# Altium footprint library Breadboard Power Module.PcbLib: 13 footprints
Each footprint in its own frame and in the unit in brackets; x right, y up, seen from the top. Pads: shape width x height; smd on the part's side, far side on the other; paste and mask are expansions set on the pad; w line width, h text height; cw(c..) or ccw(c..) is an arc to the next point about the centre after c.
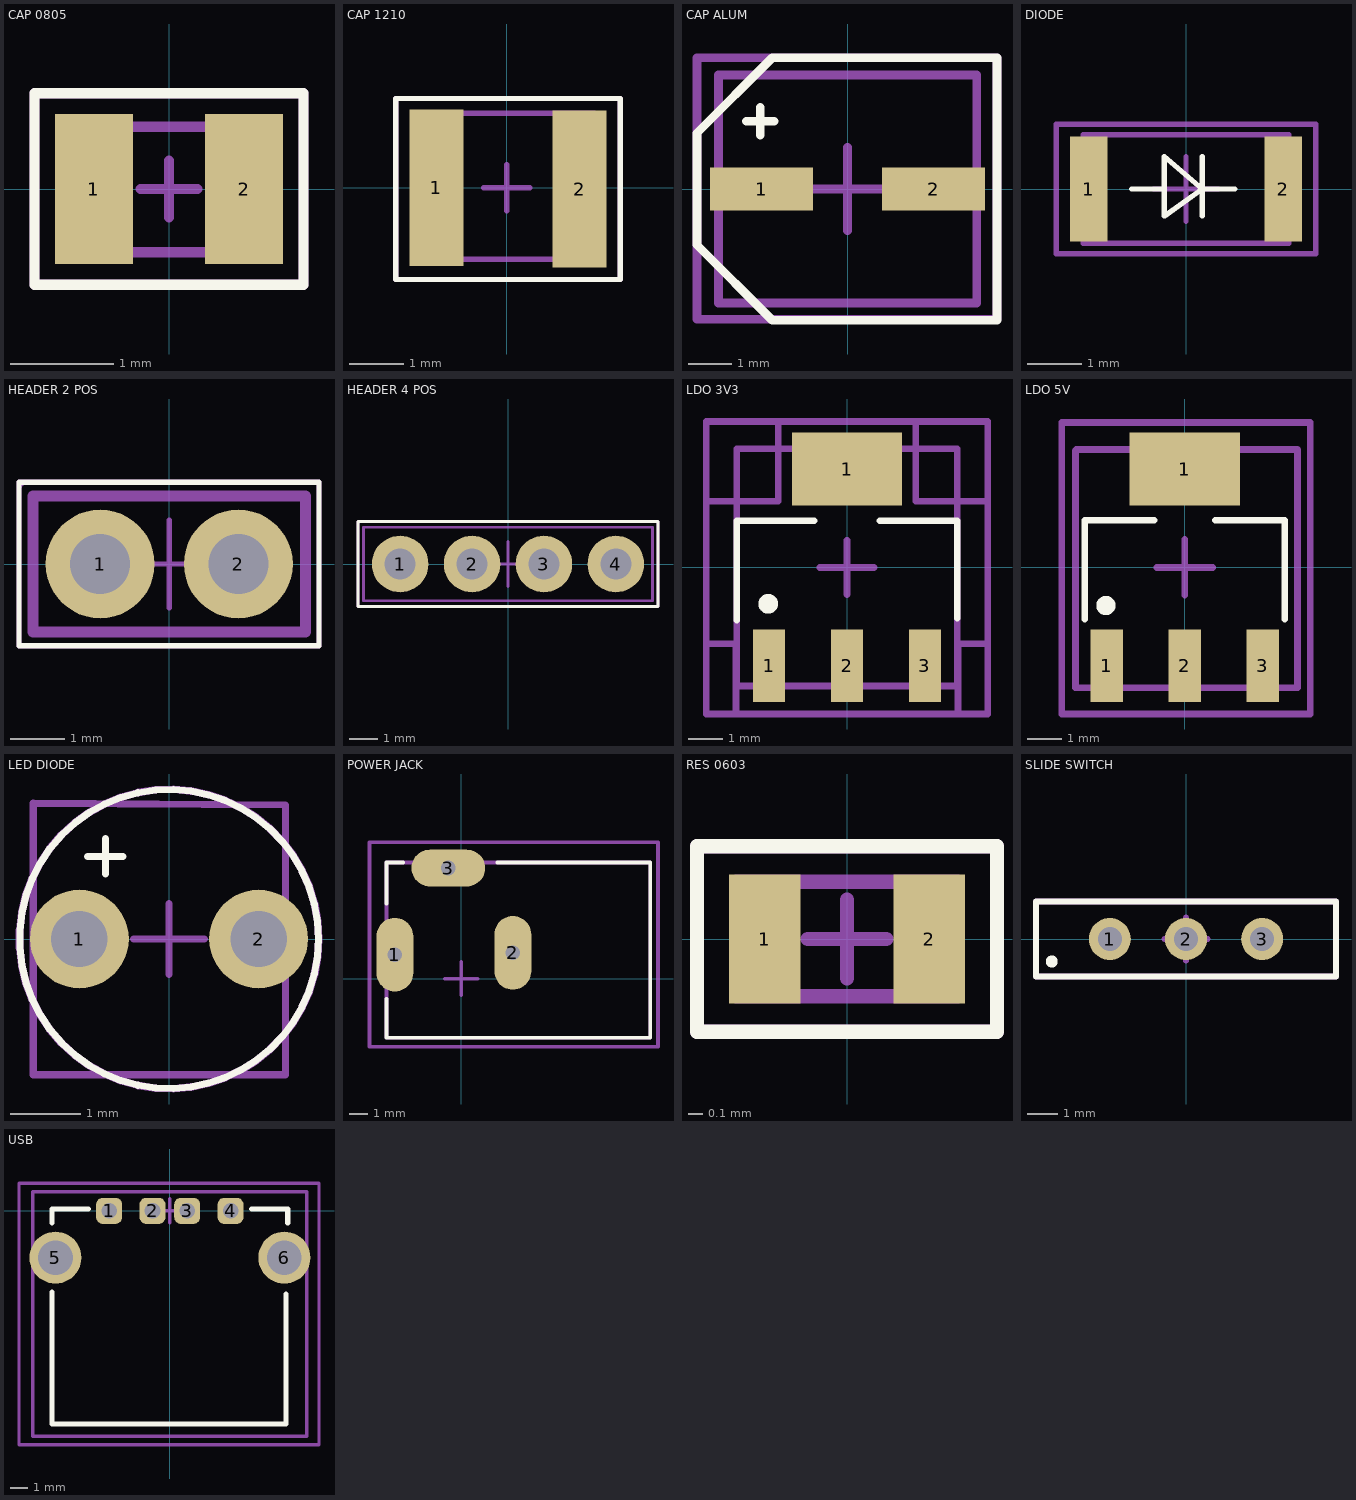
[diagram p0: the footprints below, top view; thin cyan lines are the x and y axes]

## CAP 0805 [mm]
pads (2):
  rect 0.75x1.45 smd mask+0.102: 1(-0.725,0) 2(0.725,0)
Top Overlay:
  lines w0.1: -1.3,-0.925 -1.3,0.925 1.3,0.925 1.3,-0.925 -1.3,-0.925
Top 3D Body:
  lines w0.1: -0.997,-0.609 ccw(c-0.995,-0.609) -0.995,-0.612 0.999,-0.612 ccw(c0.999,-0.611) 1,-0.611 1,0.6 ccw(c0.998,0.6) 0.998,0.602 -0.997,0.602 -0.997,0.59 -0.997,-0.609
Top Component Center:
  lines w0.1: -0.275,0 0,0 ; 0,-0.275 0,0 ; 0,0.275 0,0 ; 0.275,0 0,0 ; -1.3,-0.925 -1.3,0.925 1.3,0.925 1.3,-0.925 -1.3,-0.925
Top Designator:
  lines w0.1: -1.3,-0.925 -1.3,0.925 1.3,0.925 1.3,-0.925 -1.3,-0.925
  text ".Designator" at -0.55,-0.25 h0.6
3D body "CC0805N_YAG.step": height 0.71, standoff 0, extent -1.003,-0.61 1.003,0.61

## CAP 1210 [mm]
pads (2):
  rect 1x2.9 smd mask+0.102: 1(-1.3,0) 2(1.35,-0.025)
Top Overlay:
  lines w0.1: -2.05,-1.7 -2.05,1.65 2.1,1.65 2.1,-1.7 -2.05,-1.7
Top 3D Body:
  lines w0.1: -1.575,-1.325 -1.575,1.375 1.625,1.375 1.625,-1.325 -1.575,-1.325
Top Component Center:
  lines w0.1: -0.425,0 0,0 ; 0,-0.425 0,0 ; 0,0.425 0,0 ; 0.425,0 0,0 ; -2.05,-1.7 -2.05,1.65 2.1,1.65 2.1,-1.7 -2.05,-1.7
Top Designator:
  lines w0.1: -2.05,-1.7 -2.05,1.65 2.1,1.65 2.1,-1.7 -2.05,-1.7
  text ".Designator" at -0.175,-0.342 h1
3D body "GRM32EC81C476ME15L.STEP": height 2.5, standoff 0, extent -1.575,-1.325 1.625,1.375

## CAP ALUM [mm]
pads (2):
  rect 2.4x1 smd mask+0.05: 1(-2,0) 2(2,0)
Top Overlay:
  lines w0.2: -2.35,1.575 -1.7,1.575 ; -2.025,1.25 -2.025,1.9 ; -3.5,-1.3 -3.5,0.875 -3.5,1.3 -1.75,3.05 3.475,3.05 3.475,0.725 3.475,-3.05 -1.75,-3.05 -3.5,-1.3
Top 3D Body:
  lines w0.2: -3,-2.65 -3,2.65 3,2.65 3,-2.65 -3,-2.65
Top Component Center:
  lines w0.2: -0.975,0 0,0 ; 0,-0.975 0,0 ; 0,0.975 0,0 ; 0.975,0 0,0 ; -3.5,-3.025 3.475,-3.025 3.475,3.05 -3.5,3.05 -3.5,-3.025
Top Designator:
  lines w0.2: -3.5,-3.025 -3.5,3.05 3.475,3.05 3.475,-3.025 -3.5,-3.025
  text ".Designator" at 0.475,-0.542 h1
3D body "%C3%A2%E2%94%825%20SIZE%20CODE%20C.stp": height 5.8, standoff 0, extent -3,-2.65 3,2.65

## DIODE [mm]
pads (2):
  rect 0.7x1.95 smd mask+0.102: 1(-1.8,0) 2(1.8,0)
Top Overlay:
  lines w0.1: -1,0 -0.4,0 -0.4,0.6 ; 0.9,0 0.3,0 ; -0.4,0.6 0.3,0 ; -0.4,0.6 -0.4,-0.5 0.3,0 ; 0.3,0 0.3,-0.5 0.3,0 ; 0.3,0 0.3,0.6 0.3,0
Top 3D Body:
  lines w0.1: -1.9,-1 1.9,-1 1.9,1 -1.9,1 -1.9,-1
Top Component Center:
  lines w0.1: -0.6,0 0,0 ; 0,-0.6 0,0 ; 0,0.6 0,0 ; 0.6,0 0,0 ; -2.4,-1.2 2.4,-1.2 2.4,1.2 -2.4,1.2 -2.4,-1.2
Top Designator:
  lines w0.1: -2.4,-1.2 -2.4,1.2 2.4,1.2 2.4,-1.2 -2.4,-1.2
  text ".Designator" at -0.2,-0.633 h1.4
3D body "CR_SOD-123FL_SME.step": height 1.4, standoff 0, extent -1.93,-0.978 1.93,0.978

## HEADER 2 POS [mm]
pads (2):
  round 2 hole 1.1 mask+0.102: 1(-1.27,0) 2(1.27,0)
Top Overlay:
  lines w0.1: -2.76,-1.5 -2.76,1.5 2.75,1.5 2.75,-1.5 -2.76,-1.5
Top 3D Body:
  lines w0.2: -2.5,-1.25 -2.5,1.25 2.5,1.25 2.5,-1.25 -2.5,-1.25
Top Component Center:
  lines w0.1: -2.76,1.4 cw(c-2.66,1.4) -2.66,1.5 ; -0.8,0 0,0 ; 0,-0.8 0,0 ; 0,0.8 0,0 ; 0.8,0 0,0 ; -2.76,-1.5 -2.76,1.5 2.75,1.5 2.75,-1.5 -2.76,-1.5
Top Designator:
  lines w0.1: -2.76,-1.5 -2.76,1.5 2.75,1.5 2.75,0.75 2.75,-0.75 2.75,-1.5 -2.76,-1.5
  text ".Designator" at -0.95,-0.483 h1.4
3D body "Download_STP_61300211121_rev1.stp": height 8.57, standoff -2.97, extent -2.54,-1.27 2.54,1.27

## HEADER 4 POS [mm]
pads (4):
  round 2 hole 1.1 mask+0.102: 1(-3.81,0) 2(-1.27,0) 3(1.27,0) 4(3.81,0)
Top Overlay:
  lines w0.1: -5.3,-1.5 5.3,-1.5 5.3,1.5 -5.3,1.5 -5.3,-1.5
Top 3D Body:
  lines w0.1: -5.1,-1.3 5.1,-1.3 5.1,1.3 -5.1,1.3 -5.1,-1.3
Top Component Center:
  lines w0.1: -5.3,1.4 cw(c-5.2,1.4) -5.2,1.5 ; -0.8,0 0,0 ; 0,-0.8 0,0 ; 0,0.8 0,0 ; 0.8,0 0,0 ; -5.3,-1.5 5.3,-1.5 5.3,1.5 -5.3,1.5 -5.3,-1.5
Top Designator:
  lines w0.1: -5.3,-1.5 5.3,-1.5 5.3,1.5 -5.3,1.5 -5.3,-1.5
  text ".Designator" at 1.2,-0.733 h1.4
3D body "61300411121_Download_STP_61300411121_rev1.stp": height 8.57, standoff -2.97, extent -5.08,-1.27 5.08,1.27

## LDO 3V3 [mm]
pads (4):
  rect 0.95x2.15 smd mask+0.102: 1(-2.3,-2.9) 2(0,-2.9) 3(2.3,-2.9)
  rect 3.25x2.15 smd mask+0.102: 1(0,2.9)
Top Overlay:
  circle w0.4: c-2.325,-1.075 r0.09
  lines w0.2: -3.25,-1.55 -3.25,1.375 -0.975,1.375 ; 0.975,1.375 3.25,1.375 3.25,-1.5
Top 3D Body:
  lines w0.2: -3.25,-3.5 -3.25,3.5 3.25,3.5 3.25,-3.5 -3.25,-3.5
Top Component Center:
  lines w0.2: -0.802,-0.006 -0.002,-0.006 ; 0,-0.8 0,0 ; 0,0.8 0,0 ; 0.8,0 0,0 ; -4.15,-2.25 -4.15,1.95 -2.025,1.95 -2.025,4.3 2.025,4.3 2.025,1.95 4.15,1.95 4.15,-2.25 3.275,-2.25 3.275,-4.325 -3.275,-4.325 -3.275,-2.25 -4.15,-2.25
Top Designator:
  lines w0.2: -4.15,-4.325 -4.15,4.3 2.025,4.3 4.15,4.3 4.15,-4.325 -4.15,-4.325
  text ".Designator" at -0.4,-0.808 h1.4
3D body "AMS1117-3.3.STEP": height 1.8, standoff 0, extent -3.251,-3.499 3.251,3.499

## LDO 5V [mm]
pads (4):
  rect 0.95x2.15 smd mask+0.102: 1(-2.3,-2.9) 2(0,-2.9) 3(2.3,-2.9)
  rect 3.25x2.15 smd mask+0.102: 1(0,2.9)
Top Overlay:
  circle w0.3: c-2.325,-1.125 r0.135
  lines w0.2: -2.95,-1.525 -2.95,1.388 -0.9,1.388 ; 0.9,1.388 2.95,1.388 2.95,-1.525
Top 3D Body:
  lines w0.2: -3.225,-3.55 -3.225,3.45 -3.2,3.475 3.325,3.475 3.325,-3.55 -3.225,-3.55
Top Component Center:
  lines w0.2: -0.825,0 0,0 ; 0,-0.825 0,0 ; 0,0.825 0,0 ; 0.825,0 0,0 ; -3.625,-4.325 -3.625,4.275 3.7,4.275 3.7,-4.325 -3.625,-4.325
Top Designator:
  lines w0.2: -3.625,-4.325 -3.625,4.275 3.7,4.275 3.7,-4.325 -3.625,-4.325
  text ".Designator" at 0.55,-0.783 h1.4
3D body "AMS1117-5.0--3DModel-STEP-418109.STEP": height 1.8, standoff 0, extent -3.251,-3.499 3.251,3.499

## LED DIODE [mm]
pads (2):
  round 1.4 hole 0.8 mask+0.102: 1(-1.27,0) 2(1.27,0)
Top Overlay:
  circle w0.1: c0,0 r2.119
  lines w0.1: -1.153,1.173 -0.653,1.173 ; -0.903,0.923 -0.903,1.423 -0.903,1.173
Top 3D Body:
  lines w0.1: -1.925,-1.925 -1.925,1.925 1.65,1.9 1.65,-1.925 -1.925,-1.925
Top Component Center:
  circle w0.1: c0,0 r2.127
  lines w0.1: -0.5,0 0,0 ; 0,-0.5 0,0 ; 0,0.5 0,0 ; 0.5,0 0,0
Top Designator:
  circle w0.1: c0,0 r2.118
  text ".Designator" at -0.3,-0.508 h1.4
3D body "151031VS06000.stp": height 5.5, standoff -26.2, extent -1.925,-1.917 1.645,1.917

## POWER JACK [mm]
pads (3):
  oval 2x4 hole 0.8 square mask+0.05: 1(-3.6,1.3) 2(2.8,1.4)
  oval 4x2 hole 0.8 square mask+0.05: 3(-0.7,6)
Top Overlay:
  lines w0.2: -4.05,-1.1 -4.05,-3.2 10.25,-3.2 10.25,6.3 1.95,6.3 ; -4.05,4.075 -4.05,6.3 -3.15,6.3
Top 3D Body:
  lines w0.2: -4.05,-3.2 -4.05,6.3 10.25,6.3 10.25,-3.2 -4.05,-3.2
Top Component Center:
  lines w0.2: -0.9,0 0,0 ; 0,-0.9 0,0 ; 0,0.9 0,0 ; 0.9,0 0,0 ; -4.975,-3.7 10.675,-3.7 10.675,7.4 -4.975,7.4 -4.975,-3.7
Top Designator:
  lines w0.2: -4.975,-3.7 -4.975,7.4 10.675,7.4 10.675,-3.7 -4.975,-3.7
  text ".Designator" at 2.225,0.183 h2.5
3D body "54-00167.step": height 11, standoff -3.6, extent -4.05,-3.2 10.25,6.3

## RES 0603 [mm]
pads (2):
  rect 0.5x0.9 smd mask+0.102: 1(-0.575,0) 2(0.575,0)
Top Overlay:
  lines w0.1: -1.05,-0.65 1.05,-0.65 1.05,0.65 -1.05,0.65 -1.05,-0.65
Top 3D Body:
  lines w0.1: -0.775,-0.4 0.775,-0.4 0.775,0.4 -0.775,0.4 -0.775,-0.4
Top Component Center:
  lines w0.1: -0.275,0 0,0 ; 0,-0.275 0,0 ; 0,0.275 0,0 ; 0.275,0 0,0 ; -1.05,-0.65 1.05,-0.65 1.05,0.65 -1.05,0.65 -1.05,-0.65
Top Designator:
  lines w0.1: -1.05,-0.65 1.05,-0.65 1.05,0.65 -1.05,0.65 -1.05,-0.65
  text ".Designator" at -0.35,-0.275 h0.6
3D body "RNCF0603_stp.stp": height 0.44, standoff -0.01, extent -0.775,-0.4 0.775,0.4

## SLIDE SWITCH [mm]
pads (3):
  round 1.4 hole 0.8 mask+0.102: 1(-2.54,0) 2(0,0) 3(2.54,0)
Top Overlay:
  circle w0.2: c-4.475,-0.75 r0.1
  lines w0.2: -5,-1.25 -5,1.25 5,1.25 5,-1.25 -5,-1.25
Top 3D Body:
  lines w0.2: -5,-1.25 -5,1.25 5,1.25 5,-1.25 -5,-1.25
Top Component Center:
  lines w0.2: -0.725,0 0,0 ; 0,-0.725 0,0 ; 0,0.725 0,0 ; 0.725,0 0,0 ; -5,-1.25 -2.5,-1.25 5,-1.25 5,1.25 -5,1.25 -5,-1.25
Top Designator:
  lines w0.2: -5,-1.25 -5,1.25 5,1.25 5,-1.25 -5,-1.25
  text ".Designator" at 1.5,-0.633 h1.4
3D body "Download_STP_450301014042_rev1.stp": height 6.4, standoff -5, extent -5,-1.25 5,1.25
3D body "Download_STP_450301014042_rev1.stp": height 6.4, standoff -5, extent -5,-1.25 5,1.25

## USB [mm]
pads (6):
  rrect50% 1.5x1.5 hole 0.9 mask+0.102: 1(-3.5,0) 2(-1,0) 3(1,0) 4(3.5,0)
  round 3 hole 2 mask+0.102: 5(-6.6,-2.7) 6(6.6,-2.7)
Top Overlay:
  lines w0.3: -6.8,-4.7 -6.8,-12.3 6.7,-12.3 6.7,-4.8 ; -6.8,-0.7 -6.8,0.1 -4.7,0.1 ; 4.7,0.1 6.8,0.1 6.8,-0.7
Top 3D Body:
  lines w0.2: -7.9,-13 -7.9,1.1 7.9,1.1 7.9,-13 -7.9,-13
Top Component Center:
  lines w0.2: -0.7,0 0,0 ; 0,-0.7 0,0 ; 0,0.7 0,0 ; 0.7,0 0,0 ; -8.7,-13.5 -8.7,1.6 8.6,1.6 8.6,-13.5 -8.7,-13.5
Top Designator:
  lines w0.2: -8.7,-13.5 -8.7,1.6 8.6,1.6 8.6,-13.5 -8.7,-13.5
  text ".Designator" at -0.2,-7.734 h2
3D body "USB-A1HSW6.step": height 7.6, standoff -3.2, extent -7.9,-13 7.9,1.1